# Altium schematic symbol library jlcpcb_2025_04_ferrites_extended_0805.schlib: 546 symbols (part 4 of 10)
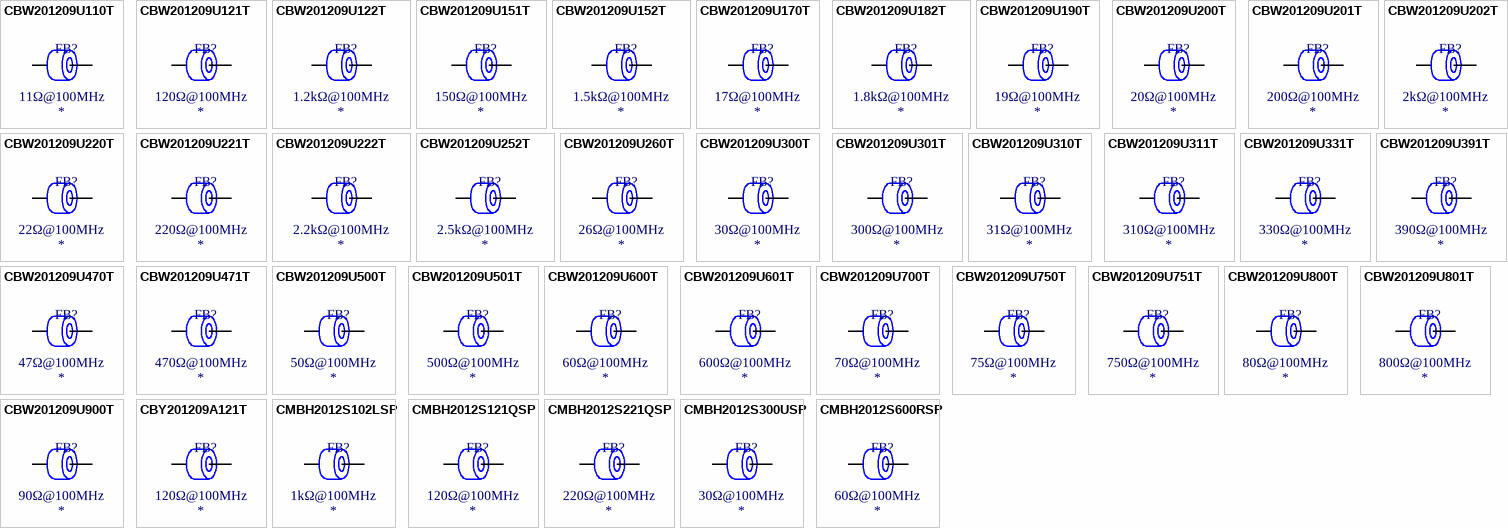
[diagram p16: symbols CBW201209U110T to CMBH2012S600RSP]

## CBW201209U152T
designator FB?  Impedance @ Frequency: 1.5kΩ@100MHz
Ferrite, 1.5kΩ@100MHz, ±25%, 500mΩ, 300mA, SMD 0805; Manufacturer: FH(Guangdong Fenghua Advanced Tech); Manufacturer Part Number: CBW201209U152T; Package Size: 0805; JLCPCB Basic Part: No; JLCPCB Part Number: C268313; Supplier 1: LCSC; Category: Ferrite Beads; Supplier Part Number 1: C268313; Tolerance: ±25%; Rated Current: 300mA; DC Resistance: 500mΩ; RoHS: Yes; ComponentLink1Description: Datasheet; ComponentLink1URL: https://wmsc.lcsc.com/wmsc/upload/file/pdf/v2/lcsc/2304140030_FH--Guangdong-Fenghua-Advanced-Tech-CBW201209U152T_C268313.pdf; ComponentLink2Description: JLCPCB Part URL; ComponentLink2URL: https://jlcpcb.com/partdetail/C268313; ComponentLink3Description: LCSC Part URL; ComponentLink3URL: https://lcsc.com/product-detail/Ferrite-Beads_FH-Guangdong-Fenghua-Advanced-Tech-FH-Guangdong-Fenghua-Advanced-Tech-CBW201209U152T_C268313.html
footprint FB-0805 (0805 (2012M) Ferrite)
pins: 1, 2

## CBW201209U170T
designator FB?  Impedance @ Frequency: 17Ω@100MHz
Ferrite, 17Ω@100MHz, SMD 0805; Manufacturer: FH(Guangdong Fenghua Advanced Tech); Manufacturer Part Number: CBW201209U170T; Package Size: 0805; JLCPCB Basic Part: No; JLCPCB Part Number: C394482; Supplier 1: LCSC; Category: Ferrite Beads; Supplier Part Number 1: C394482; RoHS: Yes; ComponentLink1Description: Datasheet; ComponentLink2Description: JLCPCB Part URL; ComponentLink2URL: https://jlcpcb.com/partdetail/C394482; ComponentLink3Description: LCSC Part URL; ComponentLink3URL: https://lcsc.com/product-detail/Ferrite-Beads_FH-Guangdong-Fenghua-Advanced-Tech-FH-Guangdong-Fenghua-Advanced-Tech-CBW201209U170T_C394482.html
pins: 1, 2

## CBW201209U182T
designator FB?  Impedance @ Frequency: 1.8kΩ@100MHz
Ferrite, 1.8kΩ@100MHz, SMD 0805; Manufacturer: FH(Guangdong Fenghua Advanced Tech); Manufacturer Part Number: CBW201209U182T; Package Size: 0805; JLCPCB Basic Part: No; JLCPCB Part Number: C394483; Supplier 1: LCSC; Category: Ferrite Beads; Supplier Part Number 1: C394483; RoHS: Yes; ComponentLink1Description: Datasheet; ComponentLink2Description: JLCPCB Part URL; ComponentLink2URL: https://jlcpcb.com/partdetail/C394483; ComponentLink3Description: LCSC Part URL; ComponentLink3URL: https://lcsc.com/product-detail/Ferrite-Beads_FH-Guangdong-Fenghua-Advanced-Tech-FH-Guangdong-Fenghua-Advanced-Tech-CBW201209U182T_C394483.html
pins: 1, 2

## CBW201209U190T
designator FB?  Impedance @ Frequency: 19Ω@100MHz
Ferrite, 19Ω@100MHz, 30mΩ, 3A, SMD 0805; Manufacturer: FH(Guangdong Fenghua Advanced Tech); Manufacturer Part Number: CBW201209U190T; Package Size: 0805; JLCPCB Basic Part: No; JLCPCB Part Number: C304170; Supplier 1: LCSC; Category: Ferrite Beads; Supplier Part Number 1: C304170; Rated Current: 3A; DC Resistance: 30mΩ; RoHS: Yes; ComponentLink1Description: Datasheet; ComponentLink1URL: https://wmsc.lcsc.com/wmsc/upload/file/pdf/v2/lcsc/2304140030_FH--Guangdong-Fenghua-Advanced-Tech-CBW201209U190T_C304170.pdf; ComponentLink2Description: JLCPCB Part URL; ComponentLink2URL: https://jlcpcb.com/partdetail/C304170; ComponentLink3Description: LCSC Part URL; ComponentLink3URL: https://lcsc.com/product-detail/Ferrite-Beads_FH-Guangdong-Fenghua-Advanced-Tech-FH-Guangdong-Fenghua-Advanced-Tech-CBW201209U190T_C304170.html
pins: 1, 2

## CBW201209U200T
designator FB?  Impedance @ Frequency: 20Ω@100MHz
Ferrite, 20Ω@100MHz, SMD 0805; Manufacturer: FH(Guangdong Fenghua Advanced Tech); Manufacturer Part Number: CBW201209U200T; Package Size: 0805; JLCPCB Basic Part: No; JLCPCB Part Number: C394484; Supplier 1: LCSC; Category: Ferrite Beads; Supplier Part Number 1: C394484; RoHS: Yes; ComponentLink1Description: Datasheet; ComponentLink2Description: JLCPCB Part URL; ComponentLink2URL: https://jlcpcb.com/partdetail/C394484; ComponentLink3Description: LCSC Part URL; ComponentLink3URL: https://lcsc.com/product-detail/Ferrite-Beads_FH-Guangdong-Fenghua-Advanced-Tech-FH-Guangdong-Fenghua-Advanced-Tech-CBW201209U200T_C394484.html
pins: 1, 2

## CBW201209U201T
designator FB?  Impedance @ Frequency: 200Ω@100MHz
Ferrite, 200Ω@100MHz, ±25%, 150mΩ, 2A, SMD 0805; Manufacturer: FH(Guangdong Fenghua Advanced Tech); Manufacturer Part Number: CBW201209U201T; Package Size: 0805; JLCPCB Basic Part: No; JLCPCB Part Number: C424242; Supplier 1: LCSC; Category: Ferrite Beads; Supplier Part Number 1: C424242; Tolerance: ±25%; Rated Current: 2A; DC Resistance: 150mΩ; RoHS: Yes; ComponentLink1Description: Datasheet; ComponentLink1URL: https://wmsc.lcsc.com/wmsc/upload/file/pdf/v2/lcsc/1912111437_FH--Guangdong-Fenghua-Advanced-Tech-CBW201209U201T_C424242.pdf; ComponentLink2Description: JLCPCB Part URL; ComponentLink2URL: https://jlcpcb.com/partdetail/C424242; ComponentLink3Description: LCSC Part URL; ComponentLink3URL: https://lcsc.com/product-detail/Ferrite-Beads_FH-Guangdong-Fenghua-Advanced-Tech-FH-Guangdong-Fenghua-Advanced-Tech-CBW201209U201T_C424242.html
footprint FB-0805 (0805 (2012M) Ferrite)
pins: 1, 2

## CBW201209U202T
designator FB?  Impedance @ Frequency: 2kΩ@100MHz
Ferrite, 2kΩ@100MHz, ±25%, 500mΩ, 300mA, SMD 0805; Manufacturer: FH(Guangdong Fenghua Advanced Tech); Manufacturer Part Number: CBW201209U202T; Package Size: 0805; JLCPCB Basic Part: No; JLCPCB Part Number: C139187; Supplier 1: LCSC; Category: Ferrite Beads; Supplier Part Number 1: C139187; Tolerance: ±25%; Rated Current: 300mA; DC Resistance: 500mΩ; RoHS: Yes; ComponentLink1Description: Datasheet; ComponentLink1URL: https://wmsc.lcsc.com/wmsc/upload/file/pdf/v2/lcsc/2304140030_FH--Guangdong-Fenghua-Advanced-Tech-CBW201209U202T_C139187.pdf; ComponentLink2Description: JLCPCB Part URL; ComponentLink2URL: https://jlcpcb.com/partdetail/C139187; ComponentLink3Description: LCSC Part URL; ComponentLink3URL: https://lcsc.com/product-detail/Ferrite-Beads_FH-Guangdong-Fenghua-Advanced-Tech-FH-Guangdong-Fenghua-Advanced-Tech-CBW201209U202T_C139187.html
footprint FB-0805 (0805 (2012M) Ferrite)
pins: 1, 2

## CBW201209U220T
designator FB?  Impedance @ Frequency: 22Ω@100MHz
Ferrite, 22Ω@100MHz, ±25%, SMD 0805; Manufacturer: FH(Guangdong Fenghua Advanced Tech); Manufacturer Part Number: CBW201209U220T; Package Size: 0805; JLCPCB Basic Part: No; JLCPCB Part Number: C74475; Supplier 1: LCSC; Category: Ferrite Beads; Supplier Part Number 1: C74475; Tolerance: ±25%; RoHS: Yes; ComponentLink1Description: Datasheet; ComponentLink1URL: https://wmsc.lcsc.com/wmsc/upload/file/pdf/v2/lcsc/2304140030_FH--Guangdong-Fenghua-Advanced-Tech-CBW201209U220T_C74475.pdf; ComponentLink2Description: JLCPCB Part URL; ComponentLink2URL: https://jlcpcb.com/partdetail/C74475; ComponentLink3Description: LCSC Part URL; ComponentLink3URL: https://lcsc.com/product-detail/Ferrite-Beads_FH-Guangdong-Fenghua-Advanced-Tech-FH-Guangdong-Fenghua-Advanced-Tech-CBW201209U220T_C74475.html
pins: 1, 2

## CBW201209U221T
designator FB?  Impedance @ Frequency: 220Ω@100MHz
Ferrite, 220Ω@100MHz, ±25%, 150mΩ, 2A, SMD 0805; Manufacturer: FH(Guangdong Fenghua Advanced Tech); Manufacturer Part Number: CBW201209U221T; Package Size: 0805; JLCPCB Basic Part: No; JLCPCB Part Number: C139188; Supplier 1: LCSC; Category: Ferrite Beads; Supplier Part Number 1: C139188; Tolerance: ±25%; Rated Current: 2A; DC Resistance: 150mΩ; RoHS: Yes; ComponentLink1Description: Datasheet; ComponentLink1URL: https://wmsc.lcsc.com/wmsc/upload/file/pdf/v2/lcsc/2304140030_FH--Guangdong-Fenghua-Advanced-Tech-CBW201209U221T_C139188.pdf; ComponentLink2Description: JLCPCB Part URL; ComponentLink2URL: https://jlcpcb.com/partdetail/C139188; ComponentLink3Description: LCSC Part URL; ComponentLink3URL: https://lcsc.com/product-detail/Ferrite-Beads_FH-Guangdong-Fenghua-Advanced-Tech-FH-Guangdong-Fenghua-Advanced-Tech-CBW201209U221T_C139188.html
footprint FB-0805 (0805 (2012M) Ferrite)
pins: 1, 2

## CBW201209U222T
designator FB?  Impedance @ Frequency: 2.2kΩ@100MHz
Ferrite, 2.2kΩ@100MHz, ±25%, 600mΩ, 100mA, SMD 0805; Manufacturer: FH(Guangdong Fenghua Advanced Tech); Manufacturer Part Number: CBW201209U222T; Package Size: 0805; JLCPCB Basic Part: No; JLCPCB Part Number: C394485; Supplier 1: LCSC; Category: Ferrite Beads; Supplier Part Number 1: C394485; Tolerance: ±25%; Rated Current: 100mA; DC Resistance: 600mΩ; RoHS: Yes; ComponentLink1Description: Datasheet; ComponentLink1URL: https://wmsc.lcsc.com/wmsc/upload/file/pdf/v2/lcsc/2304140030_FH--Guangdong-Fenghua-Advanced-Tech-CBW201209U222T_C394485.pdf; ComponentLink2Description: JLCPCB Part URL; ComponentLink2URL: https://jlcpcb.com/partdetail/C394485; ComponentLink3Description: LCSC Part URL; ComponentLink3URL: https://lcsc.com/product-detail/Ferrite-Beads_FH-Guangdong-Fenghua-Advanced-Tech-FH-Guangdong-Fenghua-Advanced-Tech-CBW201209U222T_C394485.html
footprint FB-0805 (0805 (2012M) Ferrite)
pins: 1, 2

## CBW201209U252T
designator FB?  Impedance @ Frequency: 2.5kΩ@100MHz
Ferrite, 2.5kΩ@100MHz, ±25%, 600mΩ, 100mA, SMD 0805; Manufacturer: FH(Guangdong Fenghua Advanced Tech); Manufacturer Part Number: CBW201209U252T; Package Size: 0805; JLCPCB Basic Part: No; JLCPCB Part Number: C394486; Supplier 1: LCSC; Category: Ferrite Beads; Supplier Part Number 1: C394486; Tolerance: ±25%; Rated Current: 100mA; DC Resistance: 600mΩ; RoHS: Yes; ComponentLink1Description: Datasheet; ComponentLink1URL: https://wmsc.lcsc.com/wmsc/upload/file/pdf/v2/lcsc/2304140030_FH--Guangdong-Fenghua-Advanced-Tech-CBW201209U252T_C394486.pdf; ComponentLink2Description: JLCPCB Part URL; ComponentLink2URL: https://jlcpcb.com/partdetail/C394486; ComponentLink3Description: LCSC Part URL; ComponentLink3URL: https://lcsc.com/product-detail/Ferrite-Beads_FH-Guangdong-Fenghua-Advanced-Tech-FH-Guangdong-Fenghua-Advanced-Tech-CBW201209U252T_C394486.html
footprint FB-0805 (0805 (2012M) Ferrite)
pins: 1, 2

## CBW201209U260T
designator FB?  Impedance @ Frequency: 26Ω@100MHz
Ferrite, 26Ω@100MHz, ±25%, SMD 0805; Manufacturer: FH(Guangdong Fenghua Advanced Tech); Manufacturer Part Number: CBW201209U260T; Package Size: 0805; JLCPCB Basic Part: No; JLCPCB Part Number: C139189; Supplier 1: LCSC; Category: Ferrite Beads; Supplier Part Number 1: C139189; Tolerance: ±25%; RoHS: Yes; ComponentLink1Description: Datasheet; ComponentLink1URL: https://wmsc.lcsc.com/wmsc/upload/file/pdf/v2/lcsc/2304140030_FH--Guangdong-Fenghua-Advanced-Tech-CBW201209U260T_C139189.pdf; ComponentLink2Description: JLCPCB Part URL; ComponentLink2URL: https://jlcpcb.com/partdetail/C139189; ComponentLink3Description: LCSC Part URL; ComponentLink3URL: https://lcsc.com/product-detail/Ferrite-Beads_FH-Guangdong-Fenghua-Advanced-Tech-FH-Guangdong-Fenghua-Advanced-Tech-CBW201209U260T_C139189.html
pins: 1, 2

## CBW201209U300T
designator FB?  Impedance @ Frequency: 30Ω@100MHz
Ferrite, 30Ω@100MHz, ±25%, 50mΩ, 3A, SMD 0805; Manufacturer: FH(Guangdong Fenghua Advanced Tech); Manufacturer Part Number: CBW201209U300T; Package Size: 0805; JLCPCB Basic Part: No; JLCPCB Part Number: C139190; Supplier 1: LCSC; Category: Ferrite Beads; Supplier Part Number 1: C139190; Tolerance: ±25%; Rated Current: 3A; DC Resistance: 50mΩ; RoHS: Yes; ComponentLink1Description: Datasheet; ComponentLink1URL: https://wmsc.lcsc.com/wmsc/upload/file/pdf/v2/lcsc/2304140030_FH--Guangdong-Fenghua-Advanced-Tech-CBW201209U300T_C139190.pdf; ComponentLink2Description: JLCPCB Part URL; ComponentLink2URL: https://jlcpcb.com/partdetail/C139190; ComponentLink3Description: LCSC Part URL; ComponentLink3URL: https://lcsc.com/product-detail/Ferrite-Beads_FH-Guangdong-Fenghua-Advanced-Tech-FH-Guangdong-Fenghua-Advanced-Tech-CBW201209U300T_C139190.html
footprint FB-0805 (0805 (2012M) Ferrite)
pins: 1, 2

## CBW201209U301T
designator FB?  Impedance @ Frequency: 300Ω@100MHz
Ferrite, 300Ω@100MHz, ±25%, 200mΩ, 2A, SMD 0805; Manufacturer: FH(Guangdong Fenghua Advanced Tech); Manufacturer Part Number: CBW201209U301T; Package Size: 0805; JLCPCB Basic Part: No; JLCPCB Part Number: C67451; Supplier 1: LCSC; Category: Ferrite Beads; Supplier Part Number 1: C67451; Tolerance: ±25%; Rated Current: 2A; DC Resistance: 200mΩ; RoHS: Yes; ComponentLink1Description: Datasheet; ComponentLink1URL: https://wmsc.lcsc.com/wmsc/upload/file/pdf/v2/lcsc/2304140030_FH--Guangdong-Fenghua-Advanced-Tech-CBW201209U301T_C67451.pdf; ComponentLink2Description: JLCPCB Part URL; ComponentLink2URL: https://jlcpcb.com/partdetail/C67451; ComponentLink3Description: LCSC Part URL; ComponentLink3URL: https://lcsc.com/product-detail/Ferrite-Beads_FH-Guangdong-Fenghua-Advanced-Tech-FH-Guangdong-Fenghua-Advanced-Tech-CBW201209U301T_C67451.html
footprint FB-0805 (0805 (2012M) Ferrite)
pins: 1, 2

## CBW201209U310T
designator FB?  Impedance @ Frequency: 31Ω@100MHz
Ferrite, 31Ω@100MHz, ±25%, 50mΩ, 3A, SMD 0805; Manufacturer: FH(Guangdong Fenghua Advanced Tech); Manufacturer Part Number: CBW201209U310T; Package Size: 0805; JLCPCB Basic Part: No; JLCPCB Part Number: C316429; Supplier 1: LCSC; Category: Ferrite Beads; Supplier Part Number 1: C316429; Tolerance: ±25%; Rated Current: 3A; DC Resistance: 50mΩ; RoHS: Yes; ComponentLink1Description: Datasheet; ComponentLink1URL: https://wmsc.lcsc.com/wmsc/upload/file/pdf/v2/lcsc/2304140030_FH--Guangdong-Fenghua-Advanced-Tech-CBW201209U310T_C316429.pdf; ComponentLink2Description: JLCPCB Part URL; ComponentLink2URL: https://jlcpcb.com/partdetail/C316429; ComponentLink3Description: LCSC Part URL; ComponentLink3URL: https://lcsc.com/product-detail/Ferrite-Beads_FH-Guangdong-Fenghua-Advanced-Tech-FH-Guangdong-Fenghua-Advanced-Tech-CBW201209U310T_C316429.html
footprint FB-0805 (0805 (2012M) Ferrite)
pins: 1, 2

## CBW201209U311T
designator FB?  Impedance @ Frequency: 310Ω@100MHz
Ferrite, 310Ω@100MHz, ±25%, SMD 0805; Manufacturer: FH(Guangdong Fenghua Advanced Tech); Manufacturer Part Number: CBW201209U311T; Package Size: 0805; JLCPCB Basic Part: No; JLCPCB Part Number: C401491; Supplier 1: LCSC; Category: Ferrite Beads; Supplier Part Number 1: C401491; Tolerance: ±25%; RoHS: Yes; ComponentLink1Description: Datasheet; ComponentLink1URL: https://wmsc.lcsc.com/wmsc/upload/file/pdf/v2/lcsc/2304140030_FH--Guangdong-Fenghua-Advanced-Tech-CBW201209U311T_C401491.pdf; ComponentLink2Description: JLCPCB Part URL; ComponentLink2URL: https://jlcpcb.com/partdetail/C401491; ComponentLink3Description: LCSC Part URL; ComponentLink3URL: https://lcsc.com/product-detail/Ferrite-Beads_FH-Guangdong-Fenghua-Advanced-Tech-FH-Guangdong-Fenghua-Advanced-Tech-CBW201209U311T_C401491.html
pins: 1, 2

## CBW201209U331T
designator FB?  Impedance @ Frequency: 330Ω@100MHz
Ferrite, 330Ω@100MHz, ±25%, SMD 0805; Manufacturer: FH(Guangdong Fenghua Advanced Tech); Manufacturer Part Number: CBW201209U331T; Package Size: 0805; JLCPCB Basic Part: No; JLCPCB Part Number: C74488; Supplier 1: LCSC; Category: Ferrite Beads; Supplier Part Number 1: C74488; Tolerance: ±25%; RoHS: Yes; ComponentLink1Description: Datasheet; ComponentLink1URL: https://wmsc.lcsc.com/wmsc/upload/file/pdf/v2/lcsc/2304140030_FH--Guangdong-Fenghua-Advanced-Tech-CBW201209U331T_C74488.pdf; ComponentLink2Description: JLCPCB Part URL; ComponentLink2URL: https://jlcpcb.com/partdetail/C74488; ComponentLink3Description: LCSC Part URL; ComponentLink3URL: https://lcsc.com/product-detail/Ferrite-Beads_FH-Guangdong-Fenghua-Advanced-Tech-FH-Guangdong-Fenghua-Advanced-Tech-CBW201209U331T_C74488.html
pins: 1, 2

## CBW201209U391T
designator FB?  Impedance @ Frequency: 390Ω@100MHz
Ferrite, 390Ω@100MHz, SMD 0805; Manufacturer: FH(Guangdong Fenghua Advanced Tech); Manufacturer Part Number: CBW201209U391T; Package Size: 0805; JLCPCB Basic Part: No; JLCPCB Part Number: C394487; Supplier 1: LCSC; Category: Ferrite Beads; Supplier Part Number 1: C394487; RoHS: Yes; ComponentLink1Description: Datasheet; ComponentLink2Description: JLCPCB Part URL; ComponentLink2URL: https://jlcpcb.com/partdetail/C394487; ComponentLink3Description: LCSC Part URL; ComponentLink3URL: https://lcsc.com/product-detail/Ferrite-Beads_FH-Guangdong-Fenghua-Advanced-Tech-FH-Guangdong-Fenghua-Advanced-Tech-CBW201209U391T_C394487.html
pins: 1, 2

## CBW201209U470T
designator FB?  Impedance @ Frequency: 47Ω@100MHz
Ferrite, 47Ω@100MHz, SMD 0805; Manufacturer: FH(Guangdong Fenghua Advanced Tech); Manufacturer Part Number: CBW201209U470T; Package Size: 0805; JLCPCB Basic Part: No; JLCPCB Part Number: C394488; Supplier 1: LCSC; Category: Ferrite Beads; Supplier Part Number 1: C394488; RoHS: Yes; ComponentLink1Description: Datasheet; ComponentLink1URL: https://wmsc.lcsc.com/wmsc/upload/file/pdf/v2/lcsc/2201101130_FH--Guangdong-Fenghua-Advanced-Tech-CBW201209U470T_C394488.pdf; ComponentLink2Description: JLCPCB Part URL; ComponentLink2URL: https://jlcpcb.com/partdetail/C394488; ComponentLink3Description: LCSC Part URL; ComponentLink3URL: https://lcsc.com/product-detail/Ferrite-Beads_FH-Guangdong-Fenghua-Advanced-Tech-FH-Guangdong-Fenghua-Advanced-Tech-CBW201209U470T_C394488.html
pins: 1, 2

## CBW201209U471T
designator FB?  Impedance @ Frequency: 470Ω@100MHz
Ferrite, 470Ω@100MHz, ±25%, SMD 0805; Manufacturer: FH(Guangdong Fenghua Advanced Tech); Manufacturer Part Number: CBW201209U471T; Package Size: 0805; JLCPCB Basic Part: No; JLCPCB Part Number: C139191; Supplier 1: LCSC; Category: Ferrite Beads; Supplier Part Number 1: C139191; Tolerance: ±25%; RoHS: Yes; ComponentLink1Description: Datasheet; ComponentLink1URL: https://wmsc.lcsc.com/wmsc/upload/file/pdf/v2/lcsc/2304140030_FH--Guangdong-Fenghua-Advanced-Tech-CBW201209U471T_C139191.pdf; ComponentLink2Description: JLCPCB Part URL; ComponentLink2URL: https://jlcpcb.com/partdetail/C139191; ComponentLink3Description: LCSC Part URL; ComponentLink3URL: https://lcsc.com/product-detail/Ferrite-Beads_FH-Guangdong-Fenghua-Advanced-Tech-FH-Guangdong-Fenghua-Advanced-Tech-CBW201209U471T_C139191.html
pins: 1, 2

## CBW201209U500T
designator FB?  Impedance @ Frequency: 50Ω@100MHz
Ferrite, 50Ω@100MHz, SMD 0805; Manufacturer: FH(Guangdong Fenghua Advanced Tech); Manufacturer Part Number: CBW201209U500T; Package Size: 0805; JLCPCB Basic Part: No; JLCPCB Part Number: C394489; Supplier 1: LCSC; Category: Ferrite Beads; Supplier Part Number 1: C394489; RoHS: Yes; ComponentLink1Description: Datasheet; ComponentLink2Description: JLCPCB Part URL; ComponentLink2URL: https://jlcpcb.com/partdetail/C394489; ComponentLink3Description: LCSC Part URL; ComponentLink3URL: https://lcsc.com/product-detail/Ferrite-Beads_FH-Guangdong-Fenghua-Advanced-Tech-FH-Guangdong-Fenghua-Advanced-Tech-CBW201209U500T_C394489.html
pins: 1, 2

## CBW201209U501T
designator FB?  Impedance @ Frequency: 500Ω@100MHz
Ferrite, 500Ω@100MHz, ±25%, 250mΩ, 1.5A, SMD 0805; Manufacturer: FH(Guangdong Fenghua Advanced Tech); Manufacturer Part Number: CBW201209U501T; Package Size: 0805; JLCPCB Basic Part: No; JLCPCB Part Number: C394490; Supplier 1: LCSC; Category: Ferrite Beads; Supplier Part Number 1: C394490; Tolerance: ±25%; Rated Current: 1.5A; DC Resistance: 250mΩ; RoHS: Yes; ComponentLink1Description: Datasheet; ComponentLink1URL: https://wmsc.lcsc.com/wmsc/upload/file/pdf/v2/lcsc/2304140030_FH--Guangdong-Fenghua-Advanced-Tech-CBW201209U501T_C394490.pdf; ComponentLink2Description: JLCPCB Part URL; ComponentLink2URL: https://jlcpcb.com/partdetail/C394490; ComponentLink3Description: LCSC Part URL; ComponentLink3URL: https://lcsc.com/product-detail/Ferrite-Beads_FH-Guangdong-Fenghua-Advanced-Tech-FH-Guangdong-Fenghua-Advanced-Tech-CBW201209U501T_C394490.html
footprint FB-0805 (0805 (2012M) Ferrite)
pins: 1, 2

## CBW201209U600T
designator FB?  Impedance @ Frequency: 60Ω@100MHz
Ferrite, 60Ω@100MHz, ±25%, 60mΩ, 3A, SMD 0805; Manufacturer: FH(Guangdong Fenghua Advanced Tech); Manufacturer Part Number: CBW201209U600T; Package Size: 0805; JLCPCB Basic Part: No; JLCPCB Part Number: C139192; Supplier 1: LCSC; Category: Ferrite Beads; Supplier Part Number 1: C139192; Tolerance: ±25%; Rated Current: 3A; DC Resistance: 60mΩ; RoHS: Yes; ComponentLink1Description: Datasheet; ComponentLink1URL: https://wmsc.lcsc.com/wmsc/upload/file/pdf/v2/lcsc/2304140030_FH--Guangdong-Fenghua-Advanced-Tech-CBW201209U600T_C139192.pdf; ComponentLink2Description: JLCPCB Part URL; ComponentLink2URL: https://jlcpcb.com/partdetail/C139192; ComponentLink3Description: LCSC Part URL; ComponentLink3URL: https://lcsc.com/product-detail/Ferrite-Beads_FH-Guangdong-Fenghua-Advanced-Tech-FH-Guangdong-Fenghua-Advanced-Tech-CBW201209U600T_C139192.html
footprint FB-0805 (0805 (2012M) Ferrite)
pins: 1, 2

## CBW201209U601T
designator FB?  Impedance @ Frequency: 600Ω@100MHz
Ferrite, 600Ω@100MHz, ±25%, 250mΩ, 1.5A, SMD 0805; Manufacturer: FH(Guangdong Fenghua Advanced Tech); Manufacturer Part Number: CBW201209U601T; Package Size: 0805; JLCPCB Basic Part: No; JLCPCB Part Number: C21286; Supplier 1: LCSC; Category: Ferrite Beads; Supplier Part Number 1: C21286; Tolerance: ±25%; Rated Current: 1.5A; DC Resistance: 250mΩ; RoHS: Yes; ComponentLink1Description: Datasheet; ComponentLink1URL: https://wmsc.lcsc.com/wmsc/upload/file/pdf/v2/lcsc/2304140030_FH--Guangdong-Fenghua-Advanced-Tech-CBW201209U601T_C21286.pdf; ComponentLink2Description: JLCPCB Part URL; ComponentLink2URL: https://jlcpcb.com/partdetail/C21286; ComponentLink3Description: LCSC Part URL; ComponentLink3URL: https://lcsc.com/product-detail/Ferrite-Beads_FH-Guangdong-Fenghua-Advanced-Tech-FH-Guangdong-Fenghua-Advanced-Tech-CBW201209U601T_C21286.html
footprint FB-0805 (0805 (2012M) Ferrite)
pins: 1, 2

## CBW201209U700T
designator FB?  Impedance @ Frequency: 70Ω@100MHz
Ferrite, 70Ω@100MHz, ±25%, 80mΩ, 2.5A, SMD 0805; Manufacturer: FH(Guangdong Fenghua Advanced Tech); Manufacturer Part Number: CBW201209U700T; Package Size: 0805; JLCPCB Basic Part: No; JLCPCB Part Number: C139193; Supplier 1: LCSC; Category: Ferrite Beads; Supplier Part Number 1: C139193; Tolerance: ±25%; Rated Current: 2.5A; DC Resistance: 80mΩ; RoHS: Yes; ComponentLink1Description: Datasheet; ComponentLink1URL: https://wmsc.lcsc.com/wmsc/upload/file/pdf/v2/lcsc/2304140030_FH--Guangdong-Fenghua-Advanced-Tech-CBW201209U700T_C139193.pdf; ComponentLink2Description: JLCPCB Part URL; ComponentLink2URL: https://jlcpcb.com/partdetail/C139193; ComponentLink3Description: LCSC Part URL; ComponentLink3URL: https://lcsc.com/product-detail/Ferrite-Beads_FH-Guangdong-Fenghua-Advanced-Tech-FH-Guangdong-Fenghua-Advanced-Tech-CBW201209U700T_C139193.html
footprint FB-0805 (0805 (2012M) Ferrite)
pins: 1, 2

## CBW201209U750T
designator FB?  Impedance @ Frequency: 75Ω@100MHz
Ferrite, 75Ω@100MHz, ±25%, SMD 0805; Manufacturer: FH(Guangdong Fenghua Advanced Tech); Manufacturer Part Number: CBW201209U750T; Package Size: 0805; JLCPCB Basic Part: No; JLCPCB Part Number: C394491; Supplier 1: LCSC; Category: Ferrite Beads; Supplier Part Number 1: C394491; Tolerance: ±25%; RoHS: Yes; ComponentLink1Description: Datasheet; ComponentLink1URL: https://wmsc.lcsc.com/wmsc/upload/file/pdf/v2/lcsc/2304140030_FH--Guangdong-Fenghua-Advanced-Tech-CBW201209U750T_C394491.pdf; ComponentLink2Description: JLCPCB Part URL; ComponentLink2URL: https://jlcpcb.com/partdetail/C394491; ComponentLink3Description: LCSC Part URL; ComponentLink3URL: https://lcsc.com/product-detail/Ferrite-Beads_FH-Guangdong-Fenghua-Advanced-Tech-FH-Guangdong-Fenghua-Advanced-Tech-CBW201209U750T_C394491.html
pins: 1, 2

## CBW201209U751T
designator FB?  Impedance @ Frequency: 750Ω@100MHz
Ferrite, 750Ω@100MHz, SMD 0805; Manufacturer: FH(Guangdong Fenghua Advanced Tech); Manufacturer Part Number: CBW201209U751T; Package Size: 0805; JLCPCB Basic Part: No; JLCPCB Part Number: C394492; Supplier 1: LCSC; Category: Ferrite Beads; Supplier Part Number 1: C394492; RoHS: Yes; ComponentLink1Description: Datasheet; ComponentLink2Description: JLCPCB Part URL; ComponentLink2URL: https://jlcpcb.com/partdetail/C394492; ComponentLink3Description: LCSC Part URL; ComponentLink3URL: https://lcsc.com/product-detail/Ferrite-Beads_FH-Guangdong-Fenghua-Advanced-Tech-FH-Guangdong-Fenghua-Advanced-Tech-CBW201209U751T_C394492.html
pins: 1, 2

## CBW201209U800T
designator FB?  Impedance @ Frequency: 80Ω@100MHz
Ferrite, 80Ω@100MHz, ±25%, 80mΩ, 2.5A, SMD 0805; Manufacturer: FH(Guangdong Fenghua Advanced Tech); Manufacturer Part Number: CBW201209U800T; Package Size: 0805; JLCPCB Basic Part: No; JLCPCB Part Number: C141982; Supplier 1: LCSC; Category: Ferrite Beads; Supplier Part Number 1: C141982; Tolerance: ±25%; Rated Current: 2.5A; DC Resistance: 80mΩ; RoHS: Yes; ComponentLink1Description: Datasheet; ComponentLink1URL: https://wmsc.lcsc.com/wmsc/upload/file/pdf/v2/lcsc/1811061740_FH--Guangdong-Fenghua-Advanced-Tech-CBW201209U800T_C141982.pdf; ComponentLink2Description: JLCPCB Part URL; ComponentLink2URL: https://jlcpcb.com/partdetail/C141982; ComponentLink3Description: LCSC Part URL; ComponentLink3URL: https://lcsc.com/product-detail/Ferrite-Beads_FH-Guangdong-Fenghua-Advanced-Tech-FH-Guangdong-Fenghua-Advanced-Tech-CBW201209U800T_C141982.html
footprint FB-0805 (0805 (2012M) Ferrite)
pins: 1, 2

## CBW201209U801T
designator FB?  Impedance @ Frequency: 800Ω@100MHz
Ferrite, 800Ω@100MHz, ±25%, 400mΩ, 800mA, SMD 0805; Manufacturer: FH(Guangdong Fenghua Advanced Tech); Manufacturer Part Number: CBW201209U801T; Package Size: 0805; JLCPCB Basic Part: No; JLCPCB Part Number: C394493; Supplier 1: LCSC; Category: Ferrite Beads; Supplier Part Number 1: C394493; Tolerance: ±25%; Rated Current: 800mA; DC Resistance: 400mΩ; RoHS: Yes; ComponentLink1Description: Datasheet; ComponentLink1URL: https://wmsc.lcsc.com/wmsc/upload/file/pdf/v2/lcsc/1912111437_FH--Guangdong-Fenghua-Advanced-Tech-CBW201209U801T_C394493.pdf; ComponentLink2Description: JLCPCB Part URL; ComponentLink2URL: https://jlcpcb.com/partdetail/C394493; ComponentLink3Description: LCSC Part URL; ComponentLink3URL: https://lcsc.com/product-detail/Ferrite-Beads_FH-Guangdong-Fenghua-Advanced-Tech-FH-Guangdong-Fenghua-Advanced-Tech-CBW201209U801T_C394493.html
footprint FB-0805 (0805 (2012M) Ferrite)
pins: 1, 2

## CBW201209U900T
designator FB?  Impedance @ Frequency: 90Ω@100MHz
Ferrite, 90Ω@100MHz, SMD 0805; Manufacturer: FH(Guangdong Fenghua Advanced Tech); Manufacturer Part Number: CBW201209U900T; Package Size: 0805; JLCPCB Basic Part: No; JLCPCB Part Number: C394494; Supplier 1: LCSC; Category: Ferrite Beads; Supplier Part Number 1: C394494; RoHS: Yes; ComponentLink1Description: Datasheet; ComponentLink2Description: JLCPCB Part URL; ComponentLink2URL: https://jlcpcb.com/partdetail/C394494; ComponentLink3Description: LCSC Part URL; ComponentLink3URL: https://lcsc.com/product-detail/Ferrite-Beads_FH-Guangdong-Fenghua-Advanced-Tech-FH-Guangdong-Fenghua-Advanced-Tech-CBW201209U900T_C394494.html
pins: 1, 2

## CBY201209A121T
designator FB?  Impedance @ Frequency: 120Ω@100MHz
Ferrite, 120Ω@100MHz, ±25%, 250mΩ, 300mA, SMD 0805; Manufacturer: FH(Guangdong Fenghua Advanced Tech); Manufacturer Part Number: CBY201209A121T; Package Size: 0805; JLCPCB Basic Part: No; JLCPCB Part Number: C1322418; Supplier 1: LCSC; Category: Ferrite Beads; Supplier Part Number 1: C1322418; Tolerance: ±25%; Rated Current: 300mA; DC Resistance: 250mΩ; RoHS: Yes; ComponentLink1Description: Datasheet; ComponentLink1URL: https://wmsc.lcsc.com/wmsc/upload/file/pdf/v2/lcsc/2012181944_FH--Guangdong-Fenghua-Advanced-Tech-CBY201209A121T_C1322418.pdf; ComponentLink2Description: JLCPCB Part URL; ComponentLink2URL: https://jlcpcb.com/partdetail/C1322418; ComponentLink3Description: LCSC Part URL; ComponentLink3URL: https://lcsc.com/product-detail/Ferrite-Beads_FH-Guangdong-Fenghua-Advanced-Tech-FH-Guangdong-Fenghua-Advanced-Tech-CBY201209A121T_C1322418.html
footprint FB-0805 (0805 (2012M) Ferrite)
pins: 1, 2

## CMBH2012S102LSP
designator FB?  Impedance @ Frequency: 1kΩ@100MHz
Ferrite, 1kΩ@100MHz, ±25%, 120mΩ, 1A, SMD 0805; Manufacturer: Cybermax; Manufacturer Part Number: CMBH2012S102LSP; Package Size: 0805; JLCPCB Basic Part: No; JLCPCB Part Number: C405010; Supplier 1: LCSC; Category: Ferrite Beads; Supplier Part Number 1: C405010; Tolerance: ±25%; Rated Current: 1A; DC Resistance: 120mΩ; RoHS: Yes; ComponentLink1Description: Datasheet; ComponentLink1URL: https://wmsc.lcsc.com/wmsc/upload/file/pdf/v2/lcsc/1912111437_Cybermax-CMBH2012S102LSP_C405010.pdf; ComponentLink2Description: JLCPCB Part URL; ComponentLink2URL: https://jlcpcb.com/partdetail/C405010; ComponentLink3Description: LCSC Part URL; ComponentLink3URL: https://lcsc.com/product-detail/Ferrite-Beads_Cybermax-Cybermax-CMBH2012S102LSP_C405010.html
footprint FB-0805 (0805 (2012M) Ferrite)
pins: 1, 2

## CMBH2012S121QSP
designator FB?  Impedance @ Frequency: 120Ω@100MHz
Ferrite, 120Ω@100MHz, ±25%, 55mΩ, 3A, SMD 0805; Manufacturer: Cybermax; Manufacturer Part Number: CMBH2012S121QSP; Package Size: 0805; JLCPCB Basic Part: No; JLCPCB Part Number: C405007; Supplier 1: LCSC; Category: Ferrite Beads; Supplier Part Number 1: C405007; Tolerance: ±25%; Rated Current: 3A; DC Resistance: 55mΩ; RoHS: Yes; ComponentLink1Description: Datasheet; ComponentLink1URL: https://wmsc.lcsc.com/wmsc/upload/file/pdf/v2/lcsc/2304140030_Cybermax-CMBH2012S121QSP_C405007.pdf; ComponentLink2Description: JLCPCB Part URL; ComponentLink2URL: https://jlcpcb.com/partdetail/C405007; ComponentLink3Description: LCSC Part URL; ComponentLink3URL: https://lcsc.com/product-detail/Ferrite-Beads_Cybermax-Cybermax-CMBH2012S121QSP_C405007.html
footprint FB-0805 (0805 (2012M) Ferrite)
pins: 1, 2

## CMBH2012S221QSP
designator FB?  Impedance @ Frequency: 220Ω@100MHz
Ferrite, 220Ω@100MHz, ±25%, 75mΩ, 3A, SMD 0805; Manufacturer: Cybermax; Manufacturer Part Number: CMBH2012S221QSP; Package Size: 0805; JLCPCB Basic Part: No; JLCPCB Part Number: C405008; Supplier 1: LCSC; Category: Ferrite Beads; Supplier Part Number 1: C405008; Tolerance: ±25%; Rated Current: 3A; DC Resistance: 75mΩ; RoHS: Yes; ComponentLink1Description: Datasheet; ComponentLink1URL: https://wmsc.lcsc.com/wmsc/upload/file/pdf/v2/lcsc/2304140030_Cybermax-CMBH2012S221QSP_C405008.pdf; ComponentLink2Description: JLCPCB Part URL; ComponentLink2URL: https://jlcpcb.com/partdetail/C405008; ComponentLink3Description: LCSC Part URL; ComponentLink3URL: https://lcsc.com/product-detail/Ferrite-Beads_Cybermax-Cybermax-CMBH2012S221QSP_C405008.html
footprint FB-0805 (0805 (2012M) Ferrite)
pins: 1, 2

## CMBH2012S300USP
designator FB?  Impedance @ Frequency: 30Ω@100MHz
Ferrite, 30Ω@100MHz, ±25%, 30mΩ, 5A, SMD 0805; Manufacturer: Cybermax; Manufacturer Part Number: CMBH2012S300USP; Package Size: 0805; JLCPCB Basic Part: No; JLCPCB Part Number: C405005; Supplier 1: LCSC; Category: Ferrite Beads; Supplier Part Number 1: C405005; Tolerance: ±25%; Rated Current: 5A; DC Resistance: 30mΩ; RoHS: Yes; ComponentLink1Description: Datasheet; ComponentLink1URL: https://wmsc.lcsc.com/wmsc/upload/file/pdf/v2/lcsc/2304140030_Cybermax-CMBH2012S300USP_C405005.pdf; ComponentLink2Description: JLCPCB Part URL; ComponentLink2URL: https://jlcpcb.com/partdetail/C405005; ComponentLink3Description: LCSC Part URL; ComponentLink3URL: https://lcsc.com/product-detail/Ferrite-Beads_Cybermax-Cybermax-CMBH2012S300USP_C405005.html
footprint FB-0805 (0805 (2012M) Ferrite)
pins: 1, 2

## CMBH2012S600RSP
designator FB?  Impedance @ Frequency: 60Ω@100MHz
Ferrite, 60Ω@100MHz, ±25%, 35mΩ, 4A, SMD 0805; Manufacturer: Cybermax; Manufacturer Part Number: CMBH2012S600RSP; Package Size: 0805; JLCPCB Basic Part: No; JLCPCB Part Number: C405006; Supplier 1: LCSC; Category: Ferrite Beads; Supplier Part Number 1: C405006; Tolerance: ±25%; Rated Current: 4A; DC Resistance: 35mΩ; RoHS: Yes; ComponentLink1Description: Datasheet; ComponentLink1URL: https://wmsc.lcsc.com/wmsc/upload/file/pdf/v2/lcsc/2304140030_Cybermax-CMBH2012S600RSP_C405006.pdf; ComponentLink2Description: JLCPCB Part URL; ComponentLink2URL: https://jlcpcb.com/partdetail/C405006; ComponentLink3Description: LCSC Part URL; ComponentLink3URL: https://lcsc.com/product-detail/Ferrite-Beads_Cybermax-Cybermax-CMBH2012S600RSP_C405006.html
footprint FB-0805 (0805 (2012M) Ferrite)
pins: 1, 2

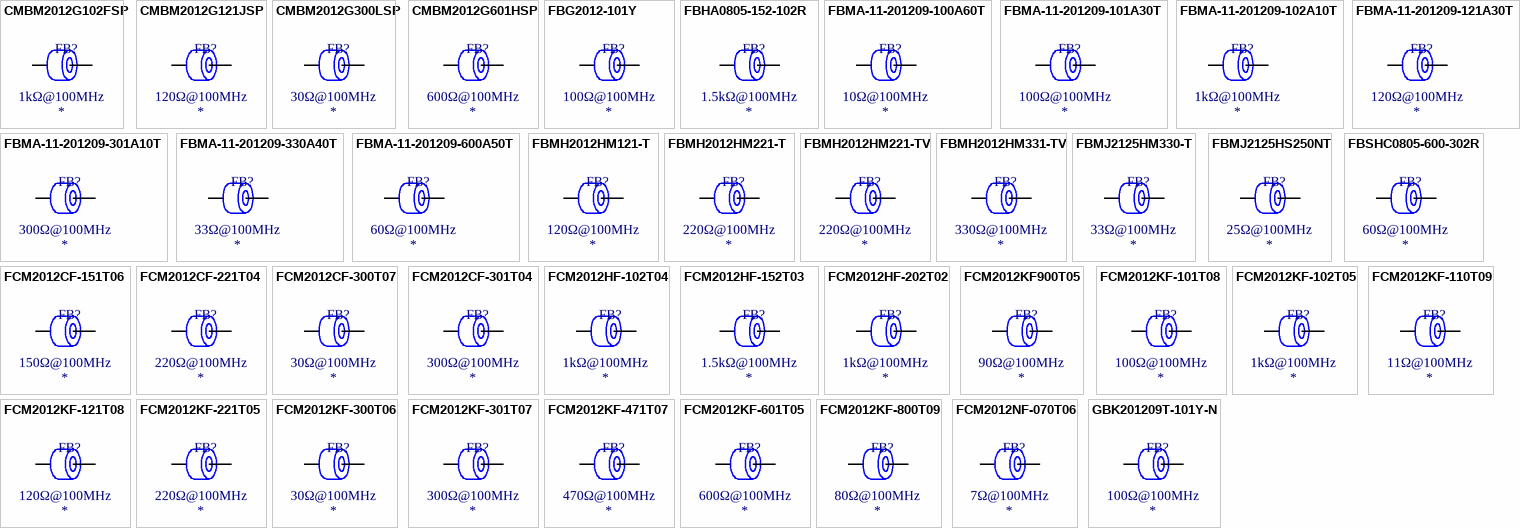
[diagram p5: symbols CMBM2012G102FSP to GBK201209T-101Y-N]

## CMBM2012G102FSP
designator FB?  Impedance @ Frequency: 1kΩ@100MHz
Ferrite, 1kΩ@100MHz, ±25%, 400mΩ, 500mA, SMD 0805; Manufacturer: Cybermax; Manufacturer Part Number: CMBM2012G102FSP; Package Size: 0805; JLCPCB Basic Part: No; JLCPCB Part Number: C404990; Supplier 1: LCSC; Category: Ferrite Beads; Supplier Part Number 1: C404990; Tolerance: ±25%; Rated Current: 500mA; DC Resistance: 400mΩ; RoHS: Yes; ComponentLink1Description: Datasheet; ComponentLink1URL: https://wmsc.lcsc.com/wmsc/upload/file/pdf/v2/lcsc/1912111437_Cybermax-CMBM2012G102FSP_C404990.pdf; ComponentLink2Description: JLCPCB Part URL; ComponentLink2URL: https://jlcpcb.com/partdetail/C404990; ComponentLink3Description: LCSC Part URL; ComponentLink3URL: https://lcsc.com/product-detail/Ferrite-Beads_Cybermax-Cybermax-CMBM2012G102FSP_C404990.html
footprint FB-0805 (0805 (2012M) Ferrite)
pins: 1, 2

## CMBM2012G121JSP
designator FB?  Impedance @ Frequency: 120Ω@100MHz
Ferrite, 120Ω@100MHz, ±25%, 220mΩ, 800mA, SMD 0805; Manufacturer: Cybermax; Manufacturer Part Number: CMBM2012G121JSP; Package Size: 0805; JLCPCB Basic Part: No; JLCPCB Part Number: C404987; Supplier 1: LCSC; Category: Ferrite Beads; Supplier Part Number 1: C404987; Tolerance: ±25%; Rated Current: 800mA; DC Resistance: 220mΩ; RoHS: Yes; ComponentLink1Description: Datasheet; ComponentLink1URL: https://wmsc.lcsc.com/wmsc/upload/file/pdf/v2/lcsc/2304140030_Cybermax-CMBM2012G121JSP_C404987.pdf; ComponentLink2Description: JLCPCB Part URL; ComponentLink2URL: https://jlcpcb.com/partdetail/C404987; ComponentLink3Description: LCSC Part URL; ComponentLink3URL: https://lcsc.com/product-detail/Ferrite-Beads_Cybermax-Cybermax-CMBM2012G121JSP_C404987.html
footprint FB-0805 (0805 (2012M) Ferrite)
pins: 1, 2

## CMBM2012G300LSP
designator FB?  Impedance @ Frequency: 30Ω@100MHz
Ferrite, 30Ω@100MHz, ±25%, 100mΩ, 1A, SMD 0805; Manufacturer: Cybermax; Manufacturer Part Number: CMBM2012G300LSP; Package Size: 0805; JLCPCB Basic Part: No; JLCPCB Part Number: C404985; Supplier 1: LCSC; Category: Ferrite Beads; Supplier Part Number 1: C404985; Tolerance: ±25%; Rated Current: 1A; DC Resistance: 100mΩ; RoHS: Yes; ComponentLink1Description: Datasheet; ComponentLink1URL: https://wmsc.lcsc.com/wmsc/upload/file/pdf/v2/lcsc/2304140030_Cybermax-CMBM2012G300LSP_C404985.pdf; ComponentLink2Description: JLCPCB Part URL; ComponentLink2URL: https://jlcpcb.com/partdetail/C404985; ComponentLink3Description: LCSC Part URL; ComponentLink3URL: https://lcsc.com/product-detail/Ferrite-Beads_Cybermax-Cybermax-CMBM2012G300LSP_C404985.html
footprint FB-0805 (0805 (2012M) Ferrite)
pins: 1, 2

## CMBM2012G601HSP
designator FB?  Impedance @ Frequency: 600Ω@100MHz
Ferrite, 600Ω@100MHz, ±25%, 350mΩ, 600mA, SMD 0805; Manufacturer: Cybermax; Manufacturer Part Number: CMBM2012G601HSP; Package Size: 0805; JLCPCB Basic Part: No; JLCPCB Part Number: C404989; Supplier 1: LCSC; Category: Ferrite Beads; Supplier Part Number 1: C404989; Tolerance: ±25%; Rated Current: 600mA; DC Resistance: 350mΩ; RoHS: Yes; ComponentLink1Description: Datasheet; ComponentLink1URL: https://wmsc.lcsc.com/wmsc/upload/file/pdf/v2/lcsc/2304140030_Cybermax-CMBM2012G601HSP_C404989.pdf; ComponentLink2Description: JLCPCB Part URL; ComponentLink2URL: https://jlcpcb.com/partdetail/C404989; ComponentLink3Description: LCSC Part URL; ComponentLink3URL: https://lcsc.com/product-detail/Ferrite-Beads_Cybermax-Cybermax-CMBM2012G601HSP_C404989.html
footprint FB-0805 (0805 (2012M) Ferrite)
pins: 1, 2

## FBG2012-101Y
designator FB?  Impedance @ Frequency: 100Ω@100MHz
Ferrite, 100Ω@100MHz, ±25%, SMD 0805; Manufacturer: Linekey; Manufacturer Part Number: FBG2012-101Y; Package Size: 0805; JLCPCB Basic Part: No; JLCPCB Part Number: C2982097; Supplier 1: LCSC; Category: Ferrite Beads; Supplier Part Number 1: C2982097; Tolerance: ±25%; RoHS: Yes; ComponentLink1Description: Datasheet; ComponentLink1URL: https://datasheet.lcsc.com/lcsc/2203221030_Linekey-FBG2012-101Y_C2982097.pdf; ComponentLink2Description: JLCPCB Part URL; ComponentLink2URL: https://jlcpcb.com/partdetail/C2982097; ComponentLink3Description: LCSC Part URL; ComponentLink3URL: https://lcsc.com/product-detail/Ferrite-Beads_Linekey-Linekey-FBG2012-101Y_C2982097.html
pins: 1, 2

## FBHA0805-152-102R
designator FB?  Impedance @ Frequency: 1.5kΩ@100MHz
Ferrite, 1.5kΩ@100MHz, ±25%, 300mΩ, 1A, SMD 0805; Manufacturer: KOHERelec; Manufacturer Part Number: FBHA0805-152-102R; Package Size: 0805; JLCPCB Basic Part: No; JLCPCB Part Number: C2922548; Supplier 1: LCSC; Category: Ferrite Beads; Supplier Part Number 1: C2922548; Tolerance: ±25%; Rated Current: 1A; DC Resistance: 300mΩ; RoHS: Yes; ComponentLink1Description: Datasheet; ComponentLink1URL: https://wmsc.lcsc.com/wmsc/upload/file/pdf/v2/lcsc/2201121300_KOHERelec-FBHA0805-152-102R_C2922548.pdf; ComponentLink2Description: JLCPCB Part URL; ComponentLink2URL: https://jlcpcb.com/partdetail/C2922548; ComponentLink3Description: LCSC Part URL; ComponentLink3URL: https://lcsc.com/product-detail/Ferrite-Beads_KOHERelec-KOHERelec-FBHA0805-152-102R_C2922548.html
footprint FB-0805 (0805 (2012M) Ferrite)
pins: 1, 2

## FBMA-11-201209-100A60T
designator FB?  Impedance @ Frequency: 10Ω@100MHz
Ferrite, 10Ω@100MHz, ±25%, 10mΩ, 6A, SMD 0805; Manufacturer: Kingcore; Manufacturer Part Number: FBMA-11-201209-100A60T; Package Size: 0805; JLCPCB Basic Part: No; JLCPCB Part Number: C491567; Supplier 1: LCSC; Category: Ferrite Beads; Supplier Part Number 1: C491567; Tolerance: ±25%; Rated Current: 6A; DC Resistance: 10mΩ; RoHS: Yes; ComponentLink1Description: Datasheet; ComponentLink1URL: https://datasheet.lcsc.com/lcsc/2003182011_Kingcore-FBMA-11-201209-100A60T_C491567.pdf; ComponentLink2Description: JLCPCB Part URL; ComponentLink2URL: https://jlcpcb.com/partdetail/C491567; ComponentLink3Description: LCSC Part URL; ComponentLink3URL: https://lcsc.com/product-detail/Ferrite-Beads_Kingcore-Kingcore-FBMA-11-201209-100A60T_C491567.html
footprint FB-0805 (0805 (2012M) Ferrite)
pins: 1, 2

## FBMA-11-201209-101A30T
designator FB?  Impedance @ Frequency: 100Ω@100MHz
Ferrite, 100Ω@100MHz, ±25%, 40mΩ, 3A, SMD 0805; Manufacturer: Kingcore; Manufacturer Part Number: FBMA-11-201209-101A30T; Package Size: 0805; JLCPCB Basic Part: No; JLCPCB Part Number: C491584; Supplier 1: LCSC; Category: Ferrite Beads; Supplier Part Number 1: C491584; Tolerance: ±25%; Rated Current: 3A; DC Resistance: 40mΩ; RoHS: Yes; ComponentLink1Description: Datasheet; ComponentLink1URL: https://datasheet.lcsc.com/lcsc/2003182011_Kingcore-FBMA-11-201209-101A30T_C491584.pdf; ComponentLink2Description: JLCPCB Part URL; ComponentLink2URL: https://jlcpcb.com/partdetail/C491584; ComponentLink3Description: LCSC Part URL; ComponentLink3URL: https://lcsc.com/product-detail/Ferrite-Beads_Kingcore-Kingcore-FBMA-11-201209-101A30T_C491584.html
footprint FB-0805 (0805 (2012M) Ferrite)
pins: 1, 2

## FBMA-11-201209-102A10T
designator FB?  Impedance @ Frequency: 1kΩ@100MHz
Ferrite, 1kΩ@100MHz, ±25%, 200mΩ, 1A, SMD 0805; Manufacturer: Kingcore; Manufacturer Part Number: FBMA-11-201209-102A10T; Package Size: 0805; JLCPCB Basic Part: No; JLCPCB Part Number: C491601; Supplier 1: LCSC; Category: Ferrite Beads; Supplier Part Number 1: C491601; Tolerance: ±25%; Rated Current: 1A; DC Resistance: 200mΩ; RoHS: Yes; ComponentLink1Description: Datasheet; ComponentLink1URL: https://datasheet.lcsc.com/lcsc/2003182011_Kingcore-FBMA-11-201209-102A10T_C491601.pdf; ComponentLink2Description: JLCPCB Part URL; ComponentLink2URL: https://jlcpcb.com/partdetail/C491601; ComponentLink3Description: LCSC Part URL; ComponentLink3URL: https://lcsc.com/product-detail/Ferrite-Beads_Kingcore-Kingcore-FBMA-11-201209-102A10T_C491601.html
footprint FB-0805 (0805 (2012M) Ferrite)
pins: 1, 2

## FBMA-11-201209-121A30T
designator FB?  Impedance @ Frequency: 120Ω@100MHz
Ferrite, 120Ω@100MHz, ±25%, 40mΩ, 3A, SMD 0805; Manufacturer: Kingcore; Manufacturer Part Number: FBMA-11-201209-121A30T; Package Size: 0805; JLCPCB Basic Part: No; JLCPCB Part Number: C491585; Supplier 1: LCSC; Category: Ferrite Beads; Supplier Part Number 1: C491585; Tolerance: ±25%; Rated Current: 3A; DC Resistance: 40mΩ; RoHS: Yes; ComponentLink1Description: Datasheet; ComponentLink1URL: https://datasheet.lcsc.com/lcsc/2003182011_Kingcore-FBMA-11-201209-121A30T_C491585.pdf; ComponentLink2Description: JLCPCB Part URL; ComponentLink2URL: https://jlcpcb.com/partdetail/C491585; ComponentLink3Description: LCSC Part URL; ComponentLink3URL: https://lcsc.com/product-detail/Ferrite-Beads_Kingcore-Kingcore-FBMA-11-201209-121A30T_C491585.html
footprint FB-0805 (0805 (2012M) Ferrite)
pins: 1, 2

## FBMA-11-201209-301A10T
designator FB?  Impedance @ Frequency: 300Ω@100MHz
Ferrite, 300Ω@100MHz, ±25%, 200mΩ, 1A, SMD 0805; Manufacturer: Kingcore; Manufacturer Part Number: FBMA-11-201209-301A10T; Package Size: 0805; JLCPCB Basic Part: No; JLCPCB Part Number: C491594; Supplier 1: LCSC; Category: Ferrite Beads; Supplier Part Number 1: C491594; Tolerance: ±25%; Rated Current: 1A; DC Resistance: 200mΩ; RoHS: Yes; ComponentLink1Description: Datasheet; ComponentLink1URL: https://datasheet.lcsc.com/lcsc/2003182011_Kingcore-FBMA-11-201209-301A10T_C491594.pdf; ComponentLink2Description: JLCPCB Part URL; ComponentLink2URL: https://jlcpcb.com/partdetail/C491594; ComponentLink3Description: LCSC Part URL; ComponentLink3URL: https://lcsc.com/product-detail/Ferrite-Beads_Kingcore-Kingcore-FBMA-11-201209-301A10T_C491594.html
footprint FB-0805 (0805 (2012M) Ferrite)
pins: 1, 2

## FBMA-11-201209-330A40T
designator FB?  Impedance @ Frequency: 33Ω@100MHz
Ferrite, 33Ω@100MHz, ±25%, 35mΩ, 4A, SMD 0805; Manufacturer: Kingcore; Manufacturer Part Number: FBMA-11-201209-330A40T; Package Size: 0805; JLCPCB Basic Part: No; JLCPCB Part Number: C491572; Supplier 1: LCSC; Category: Ferrite Beads; Supplier Part Number 1: C491572; Tolerance: ±25%; Rated Current: 4A; DC Resistance: 35mΩ; RoHS: Yes; ComponentLink1Description: Datasheet; ComponentLink1URL: https://datasheet.lcsc.com/lcsc/2003182011_Kingcore-FBMA-11-201209-330A40T_C491572.pdf; ComponentLink2Description: JLCPCB Part URL; ComponentLink2URL: https://jlcpcb.com/partdetail/C491572; ComponentLink3Description: LCSC Part URL; ComponentLink3URL: https://lcsc.com/product-detail/Ferrite-Beads_Kingcore-Kingcore-FBMA-11-201209-330A40T_C491572.html
footprint FB-0805 (0805 (2012M) Ferrite)
pins: 1, 2

## FBMA-11-201209-600A50T
designator FB?  Impedance @ Frequency: 60Ω@100MHz
Ferrite, 60Ω@100MHz, ±25%, 20mΩ, 5A, SMD 0805; Manufacturer: Kingcore; Manufacturer Part Number: FBMA-11-201209-600A50T; Package Size: 0805; JLCPCB Basic Part: No; JLCPCB Part Number: C491579; Supplier 1: LCSC; Category: Ferrite Beads; Supplier Part Number 1: C491579; Tolerance: ±25%; Rated Current: 5A; DC Resistance: 20mΩ; RoHS: Yes; ComponentLink1Description: Datasheet; ComponentLink1URL: https://datasheet.lcsc.com/lcsc/2003182011_Kingcore-FBMA-11-201209-600A50T_C491579.pdf; ComponentLink2Description: JLCPCB Part URL; ComponentLink2URL: https://jlcpcb.com/partdetail/C491579; ComponentLink3Description: LCSC Part URL; ComponentLink3URL: https://lcsc.com/product-detail/Ferrite-Beads_Kingcore-Kingcore-FBMA-11-201209-600A50T_C491579.html
footprint FB-0805 (0805 (2012M) Ferrite)
pins: 1, 2

## FBMH2012HM121-T
designator FB?  Impedance @ Frequency: 120Ω@100MHz
Ferrite, 120Ω@100MHz, ±25%, 32mΩ, 2.5A, SMD 0805; Manufacturer: Taiyo Yuden; Manufacturer Part Number: FBMH2012HM121-T; Package Size: 0805; JLCPCB Basic Part: No; JLCPCB Part Number: C454098; Supplier 1: LCSC; Category: Ferrite Beads; Supplier Part Number 1: C454098; Tolerance: ±25%; Rated Current: 2.5A; DC Resistance: 32mΩ; RoHS: Yes; ComponentLink1Description: Datasheet; ComponentLink1URL: https://wmsc.lcsc.com/wmsc/upload/file/pdf/v2/lcsc/2304140030_Taiyo-Yuden-FBMH2012HM121-T_C454098.pdf; ComponentLink2Description: JLCPCB Part URL; ComponentLink2URL: https://jlcpcb.com/partdetail/C454098; ComponentLink3Description: LCSC Part URL; ComponentLink3URL: https://lcsc.com/product-detail/Ferrite-Beads_Taiyo-Yuden-Taiyo-Yuden-FBMH2012HM121-T_C454098.html
footprint FB-0805 (0805 (2012M) Ferrite)
pins: 1, 2

## FBMH2012HM221-T
designator FB?  Impedance @ Frequency: 220Ω@100MHz
Ferrite, 220Ω@100MHz, ±25%, 60mΩ, 2A, SMD 0805; Manufacturer: Taiyo Yuden; Manufacturer Part Number: FBMH2012HM221-T; Package Size: 0805; JLCPCB Basic Part: No; JLCPCB Part Number: C406379; Supplier 1: LCSC; Category: Ferrite Beads; Supplier Part Number 1: C406379; Tolerance: ±25%; Rated Current: 2A; DC Resistance: 60mΩ; RoHS: Yes; ComponentLink1Description: Datasheet; ComponentLink1URL: https://wmsc.lcsc.com/wmsc/upload/file/pdf/v2/lcsc/1912111437_Taiyo-Yuden-FBMH2012HM221-T_C406379.pdf; ComponentLink2Description: JLCPCB Part URL; ComponentLink2URL: https://jlcpcb.com/partdetail/C406379; ComponentLink3Description: LCSC Part URL; ComponentLink3URL: https://lcsc.com/product-detail/Ferrite-Beads_Taiyo-Yuden-Taiyo-Yuden-FBMH2012HM221-T_C406379.html
footprint FB-0805 (0805 (2012M) Ferrite)
pins: 1, 2

## FBMH2012HM221-TV
designator FB?  Impedance @ Frequency: 220Ω@100MHz
Ferrite, 220Ω@100MHz, ±25%, 60mΩ, 2A, SMD 0805; Manufacturer: Taiyo Yuden; Manufacturer Part Number: FBMH2012HM221-TV; Package Size: 0805; JLCPCB Basic Part: No; JLCPCB Part Number: C515369; Supplier 1: LCSC; Category: Ferrite Beads; Supplier Part Number 1: C515369; Tolerance: ±25%; Rated Current: 2A; DC Resistance: 60mΩ; RoHS: Yes; ComponentLink1Description: Datasheet; ComponentLink1URL: https://wmsc.lcsc.com/wmsc/upload/file/pdf/v2/lcsc/2304140030_Taiyo-Yuden-FBMH2012HM221-TV_C515369.pdf; ComponentLink2Description: JLCPCB Part URL; ComponentLink2URL: https://jlcpcb.com/partdetail/C515369; ComponentLink3Description: LCSC Part URL; ComponentLink3URL: https://lcsc.com/product-detail/Ferrite-Beads_Taiyo-Yuden-Taiyo-Yuden-FBMH2012HM221-TV_C515369.html
footprint FB-0805 (0805 (2012M) Ferrite)
pins: 1, 2

## FBMH2012HM331-TV
designator FB?  Impedance @ Frequency: 330Ω@100MHz
Ferrite, 330Ω@100MHz, ±25%, 80mΩ, 1.8A, SMD 0805; Manufacturer: Taiyo Yuden; Manufacturer Part Number: FBMH2012HM331-TV; Package Size: 0805; JLCPCB Basic Part: No; JLCPCB Part Number: C515370; Supplier 1: LCSC; Category: Ferrite Beads; Supplier Part Number 1: C515370; Tolerance: ±25%; Rated Current: 1.8A; DC Resistance: 80mΩ; RoHS: Yes; ComponentLink1Description: Datasheet; ComponentLink1URL: https://wmsc.lcsc.com/wmsc/upload/file/pdf/v2/lcsc/2304140030_Taiyo-Yuden-FBMH2012HM331-TV_C515370.pdf; ComponentLink2Description: JLCPCB Part URL; ComponentLink2URL: https://jlcpcb.com/partdetail/C515370; ComponentLink3Description: LCSC Part URL; ComponentLink3URL: https://lcsc.com/product-detail/Ferrite-Beads_Taiyo-Yuden-Taiyo-Yuden-FBMH2012HM331-TV_C515370.html
footprint FB-0805 (0805 (2012M) Ferrite)
pins: 1, 2

## FBMJ2125HM330-T
designator FB?  Impedance @ Frequency: 33Ω@100MHz
Ferrite, 33Ω@100MHz, ±25%, 8mΩ, 4A, SMD 0805; Manufacturer: Taiyo Yuden; Manufacturer Part Number: FBMJ2125HM330-T; Package Size: 0805; JLCPCB Basic Part: No; JLCPCB Part Number: C271757; Supplier 1: LCSC; Category: Ferrite Beads; Supplier Part Number 1: C271757; Tolerance: ±25%; Rated Current: 4A; DC Resistance: 8mΩ; RoHS: Yes; ComponentLink1Description: Datasheet; ComponentLink1URL: https://wmsc.lcsc.com/wmsc/upload/file/pdf/v2/lcsc/1810161623_Taiyo-Yuden-FBMJ2125HM330-T_C271757.pdf; ComponentLink2Description: JLCPCB Part URL; ComponentLink2URL: https://jlcpcb.com/partdetail/C271757; ComponentLink3Description: LCSC Part URL; ComponentLink3URL: https://lcsc.com/product-detail/Ferrite-Beads_Taiyo-Yuden-Taiyo-Yuden-FBMJ2125HM330-T_C271757.html
footprint FB-0805 (0805 (2012M) Ferrite)
pins: 1, 2

## FBMJ2125HS250NT
designator FB?  Impedance @ Frequency: 25Ω@100MHz
Ferrite, 25Ω@100MHz, ±30%, 4mΩ, 6A, SMD 0805; Manufacturer: Taiyo Yuden; Manufacturer Part Number: FBMJ2125HS250NT; Package Size: 0805; JLCPCB Basic Part: No; JLCPCB Part Number: C92883; Supplier 1: LCSC; Category: Ferrite Beads; Supplier Part Number 1: C92883; Tolerance: ±30%; Rated Current: 6A; DC Resistance: 4mΩ; RoHS: Yes; ComponentLink1Description: Datasheet; ComponentLink1URL: https://wmsc.lcsc.com/wmsc/upload/file/pdf/v2/lcsc/1810091433_Taiyo-Yuden-FBMJ2125HS250NT_C92883.pdf; ComponentLink2Description: JLCPCB Part URL; ComponentLink2URL: https://jlcpcb.com/partdetail/C92883; ComponentLink3Description: LCSC Part URL; ComponentLink3URL: https://lcsc.com/product-detail/Ferrite-Beads_Taiyo-Yuden-Taiyo-Yuden-FBMJ2125HS250NT_C92883.html
footprint FB-0805 (0805 (2012M) Ferrite)
pins: 1, 2

## FBSHC0805-600-302R
designator FB?  Impedance @ Frequency: 60Ω@100MHz
Ferrite, 60Ω@100MHz, ±25%, 40mΩ, 3A, SMD 0805; Manufacturer: KOHERelec; Manufacturer Part Number: FBSHC0805-600-302R; Package Size: 0805; JLCPCB Basic Part: No; JLCPCB Part Number: C2922550; Supplier 1: LCSC; Category: Ferrite Beads; Supplier Part Number 1: C2922550; Tolerance: ±25%; Rated Current: 3A; DC Resistance: 40mΩ; RoHS: Yes; ComponentLink1Description: Datasheet; ComponentLink1URL: https://wmsc.lcsc.com/wmsc/upload/file/pdf/v2/lcsc/2201121300_KOHERelec-FBSHC0805-600-302R_C2922550.pdf; ComponentLink2Description: JLCPCB Part URL; ComponentLink2URL: https://jlcpcb.com/partdetail/C2922550; ComponentLink3Description: LCSC Part URL; ComponentLink3URL: https://lcsc.com/product-detail/Ferrite-Beads_KOHERelec-KOHERelec-FBSHC0805-600-302R_C2922550.html
footprint FB-0805 (0805 (2012M) Ferrite)
pins: 1, 2